# Altium schematic symbol library mLRS_RX.SCHLIB: 3 symbols
Pins are listed as number, name and electrical type; pins without a type are passive.

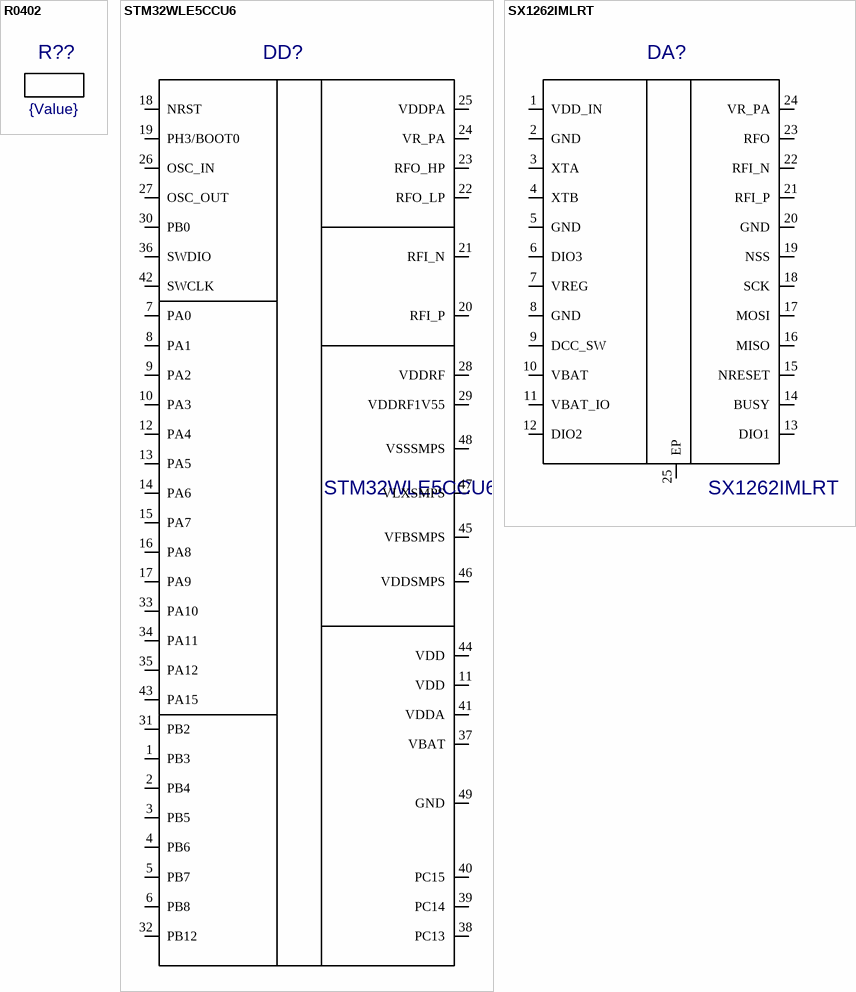
[diagram p0: symbols R0402 to SX1262IMLRT]

## R0402
designator R??  value {Value}  (hidden comment: R0402)
Mounting  Method: SMD
footprint R0402
pins: 1, 2

## STM32WLE5CCU6
designator DD?
Value: {Value}; Mounting  Method: SMD
pins: 1 PB3, 2 PB4, 3 PB5, 4 PB6, 5 PB7, 6 PB8, 7 PA0, 8 PA1, 9 PA2, 10 PA3, 11 VDD, 12 PA4, 13 PA5, 14 PA6, 15 PA7, 16 PA8, 17 PA9, 18 NRST, 19 PH3/BOOT0, 20 RFI_P, 21 RFI_N, 22 RFO_LP, 23 RFO_HP, 24 VR_PA, 25 VDDPA, 26 OSC_IN, 27 OSC_OUT, 28 VDDRF, 29 VDDRF1V55, 30 PB0, 31 PB2, 32 PB12, 33 PA10, 34 PA11, 35 PA12, 36 SWDIO, 37 VBAT, 38 PC13, 39 PC14, 40 PC15, 41 VDDA, 42 SWCLK, 43 PA15, 44 VDD, 45 VFBSMPS, 46 VDDSMPS, 47 VLXSMPS, 48 VSSSMPS, 49 GND

## SX1262IMLRT
designator DA?
Value: {Value}; Mounting  Method: SMD
pins: 1 VDD_IN, 2 GND, 3 XTA, 4 XTB, 5 GND, 6 DIO3, 7 VREG, 8 GND, 9 DCC_SW, 10 VBAT, 11 VBAT_IO, 12 DIO2, 13 DIO1, 14 BUSY, 15 NRESET, 16 MISO, 17 MOSI, 18 SCK, 19 NSS, 20 GND, 21 RFI_P, 22 RFI_N, 23 RFO, 24 VR_PA, 25 EP